# Altium schematic symbol library SCH - ARM CORTEX - STM STM32F038E6Yx.SchLib: 1 symbol
Pins are listed as number, name and electrical type; pins without a type are passive.

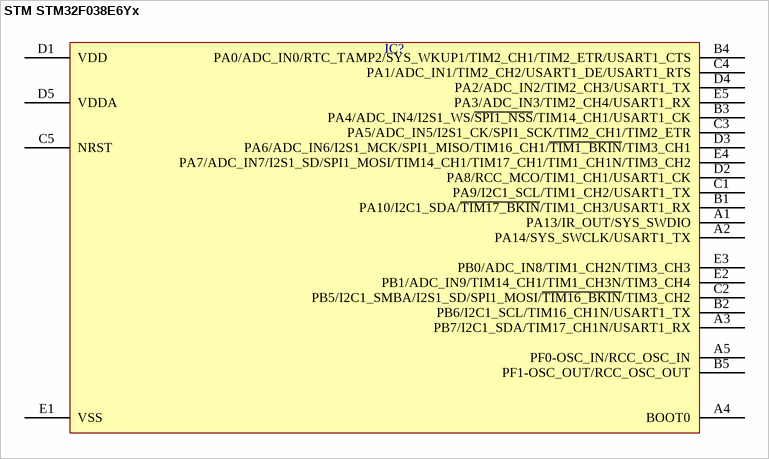
[diagram p0: symbol STM STM32F038E6Yx]

## STM STM32F038E6Yx
designator IC?  (value not drawn)
pins: A1 PA13/IR_OUT/SYS_SWDIO, A2 PA14/SYS_SWCLK/USART1_TX, A3 PB7/I2C1_SDA/TIM17_CH1N/USART1_RX, A4 BOOT0, A5 PF0-OSC_IN/RCC_OSC_IN, B1 PA10/I2C1_SDA/~{TIM17_BKIN}/TIM1_CH3/USART1_RX, B2 PB6/I2C1_SCL/TIM16_CH1N/USART1_TX, B3 PA4/ADC_IN4/I2S1_WS/~{SPI1_NSS}/TIM14_CH1/USART1_CK, B4 PA0/ADC_IN0/RTC_TAMP2/SYS_WKUP1/TIM2_CH1/TIM2_ETR/USART1_CTS, B5 PF1-OSC_OUT/RCC_OSC_OUT, C1 PA9/I2C1_SCL/TIM1_CH2/USART1_TX, C2 PB5/I2C1_SMBA/I2S1_SD/SPI1_MOSI/~{TIM16_BKIN}/TIM3_CH2, C3 PA5/ADC_IN5/I2S1_CK/SPI1_SCK/TIM2_CH1/TIM2_ETR, C4 PA1/ADC_IN1/TIM2_CH2/USART1_DE/USART1_RTS, C5 NRST, D1 VDD, D2 PA8/RCC_MCO/TIM1_CH1/USART1_CK, D3 PA6/ADC_IN6/I2S1_MCK/SPI1_MISO/TIM16_CH1/~{TIM1_BKIN}/TIM3_CH1, D4 PA2/ADC_IN2/TIM2_CH3/USART1_TX, D5 VDDA, E1 VSS, E2 PB1/ADC_IN9/TIM14_CH1/TIM1_CH3N/TIM3_CH4, E3 PB0/ADC_IN8/TIM1_CH2N/TIM3_CH3, E4 PA7/ADC_IN7/I2S1_SD/SPI1_MOSI/TIM14_CH1/TIM17_CH1/TIM1_CH1N/TIM3_CH2, E5 PA3/ADC_IN3/TIM2_CH4/USART1_RX